# Altium footprint library PCB - CONNECTOR - MOLEX - MOLEX 0436500513.PcbLib: 1 footprints
Each footprint in its own frame and in the unit in brackets; x right, y up, seen from the top. Pads: shape width x height; smd on the part's side, far side on the other; paste and mask are expansions set on the pad; w line width, h text height; cw(c..) or ccw(c..) is an arc to the next point about the centre after c.
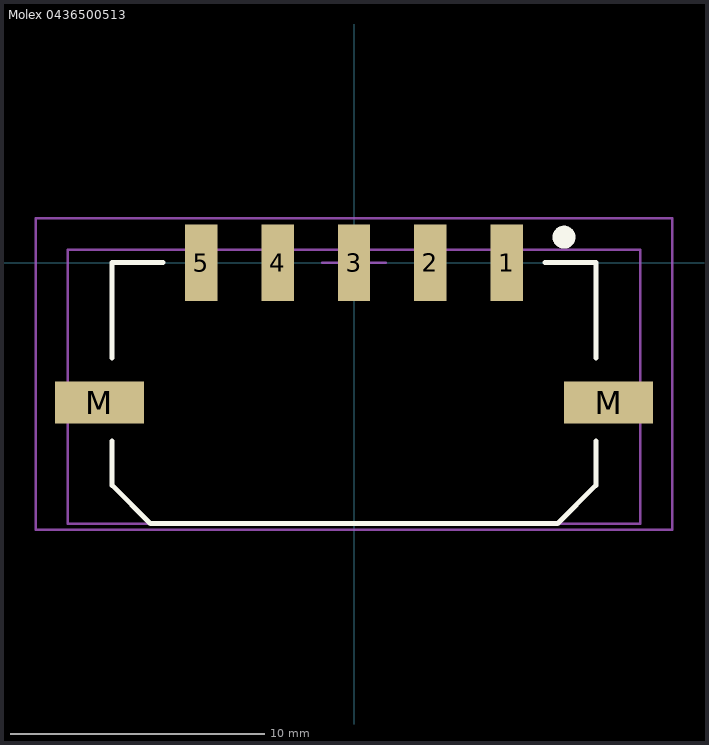
[diagram p0: the footprint, top view; thin cyan lines are the x and y axes]

## Molex 0436500513 [mm]
height 4.37
pads (7):
  rect 1.27x3 smd: 1(6,0) 2(3,0) 3(0,0) 4(-3,0) 5(-6,0)
  rect 3.5x1.65 smd: M(-10,-5.5) M(10,-5.5)
Top Overlay:
  circle w0.5: c8.25,1 r0.2
  lines w0.2: -9.5,-7 -9.5,-8.75 -8,-10.25 8,-10.25 9.5,-8.75 9.5,-7 ; -9.5,-3.75 -9.5,0 -7.5,0 ; 7.5,0 9.5,0 9.5,-3.75
Mechanical 13:
  lines w0.1: -11.25,-10.25 11.25,-10.25 11.25,0.5 -11.25,0.5 -11.25,-10.25
Mechanical 15 (Mech15):
  lines w0.1: -1.25,0 0,0 ; 0,-1.25 0,0 ; 0,1.2 0,0 ; 1.25,0 0,0 ; -12.5,-10.5 -12.5,1.75 12.5,1.75 12.5,-10.5 -12.5,-10.5
3D body "Molex - 436500513.stp": height 5.64, standoff -0.04, extent -11.32,-10.14 11.32,0.6